# Altium schematic symbol library EuroPresserV1.SCHLIB: 8 symbols
Pins are listed as number, name and electrical type; pins without a type are passive.

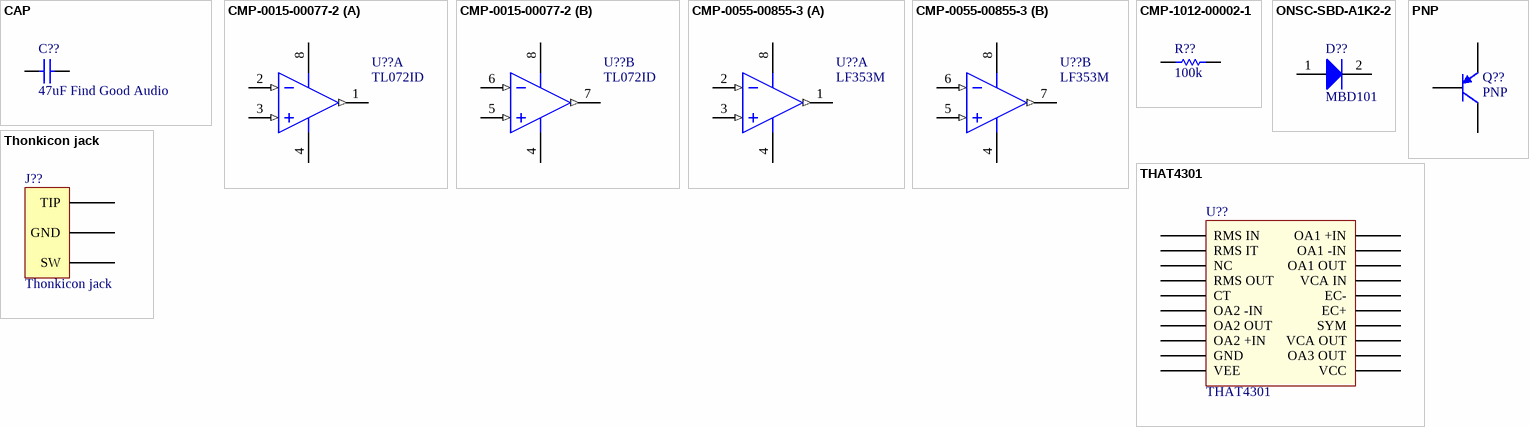
[diagram p0: symbols CAP to Thonkicon jack]

## CAP
designator C??, comment 47uF Find Good Audio
CAP 47uF 10V ±20% 1206 (3216 Metric) Thickness 1.9mm SMD; Case-Metric: 3216; Case-EIA: 1206; Tolerance: Â±20%; Technology: SMT; Rated Voltage: 10 V; Value: 47uF; Max Thickness: 1.9 mm
footprint CAPC1206(3216)190_N (Chip Capacitor, Body 3.2x1.6mm, Height 1.9mm, IPC Medium Density)
footprint CAPC1206(3216)190_M (Chip Capacitor, Body 3.2x1.6mm, Height 1.9mm, IPC Low Density)
footprint CAPC1206(3216)190_L (Chip Capacitor, Body 3.2x1.6mm, Height 1.9mm, IPC High Density)
pins: 1, 2
1 alternate drawing of the same symbol

## CMP-0015-00077-2
designator U??, comment TL072ID
Dual Low-Noise JFET-Input General-Purpose Operational Amplifier, 7 to 36 V, -40 to 85 degC, 8-pin SOIC (D8), Green (RoHS & no Sb/Br); Mfr: ST Micro; Mfr_Pn: TL072IDT; Distributor: Mouser; Distributor_Pn: 511-TL072IDT
footprint D0008A_N (SOIC, 8-Leads, Body 5x4mm, Pitch 1.27mm, IPC Medium Density)
footprint D0008A_L (SOIC, 8-Leads, Body 5x4mm, Pitch 1.27mm, IPC High Density)
footprint D0008A_M (SOIC, 8-Leads, Body 5x4mm, Pitch 1.27mm, IPC Low Density)
pins on every part: 4 VCC- (power), 8 VCC+ (power)
part A pins: 1 OUT1 (out), 2 IN1- (in), 3 IN1+ (in)
part B pins: 5 IN2+ (in), 6 IN2- (in), 7 OUT2 (out)

## CMP-0055-00855-3
designator U??, comment LF353M
Wide Bandwidth Dual JFET Input Operational Amplifier, 8-pin Narrow SOIC; Manufacturer: Texas Instruments; CompType: Amplifiers; PackageTopMarking: NSZXTT*LF353*M; PowerWise: N; Package Reference: D0008A; Code_JEDEC: MS-012-AA; PackageDescription: SOIC Narrow, 4.9 x 3.9 x 1.45mm, 8 Lead, 1.27mm Pitch; ComponentLink1Description: Datasheet URL; RoHS: N; ComponentLink1URL: http://www.ti.com/general/docs/lit/getliterature.tsp?genericPartNumber=LF353-N&fileType=pdf; PinCount: 8; Code_IPC: SOIC127P600-8
footprint D0008A_M (SOIC, 8-Leads, Body 5x4mm, Pitch 1.27mm, IPC Low Density)
footprint D0008A_N (SOIC, 8-Leads, Body 5x4mm, Pitch 1.27mm, IPC Medium Density)
footprint D0008A_L (SOIC, 8-Leads, Body 5x4mm, Pitch 1.27mm, IPC High Density)
pins on every part: 4 V- (power), 8 V+ (power)
part A pins: 1 OUTA (out), 2 INA- (in), 3 INA+ (in)
part B pins: 5 INB+ (in), 6 INB- (in), 7 OUTB (out)

## CMP-1012-00002-1
designator R??, comment 100k
Res; Mfr: Susumu; Mfr_Pn: RR0816P-104-D; Case-EIA: 0603; Tolerance: 5 %; Distributor: Mouser; Distributor_Pn: 754-RR0816P-104D; Value: 100k
footprint RESC0603(1608)_M (Chip Resistor, Body 1.6x0.8mm, IPC Low Density)
footprint RESC0603(1608)_N (Chip Resistor, Body 1.6x0.8mm, IPC Medium Density)
footprint RESC0603(1608)_L (Chip Resistor, Body 1.6x0.8mm, IPC High Density)
pins: 1, 2
1 alternate drawing of the same symbol

## ONSC-SBD-A1K2-2
designator D??, comment MBD101
Schottky Barrier Diode, 2-Pin TO-92, Bulk Box; Manufacturer: On Semiconductor; Configuration: Single; ComponentLink2URL: http://www.onsemi.cn/pub_link/Collateral/MBD101-D.PDF; PackageReference: TO-92-2-182-06; PackageDescription: 2-Pin Transistor Outline, Body 4.825 x 3.685 mm, Pitch 2.54 mm; ComponentLink2Description: Datasheet; Packing: Bulk Box; ComponentLink1URL: http://www.onsemi.com/; ComponentLink3URL: http://www.onsemi.com/pub_link/Collateral/182-06.PDF; PartNumber: MBD101; RoHS: FALSE; ComponentLink3Description: Package Specification; DatasheetVersion: Rev. 3; ComponentLink1Description: Manufacturer URL; PackageVersion: Rev. L, 04/1998; Mounting Technology: Through Hole
footprint ONSC-TO-92-2-182-06 (TO, 2-Leads, Body Dia 4.69mm, Pitch 2.54mm)
pins: 1 A, 2 K

## PNP
designator Q??
PNP Bipolar Transistor; Published: 8-Jun-2000; LatestRevisionDate: 29-May-2009; LatestRevisionNote: IPC-7351 Footprint Added.; PackageVersion: Aug-1999; PackageReference: SOT-23B; Publisher: Altium Limited; PackageDescription: 3-Pin SOT-23 Package 0.95 mm Pitch, 2.4 mm Lead Span
footprint SOT-23B_N (SOT23, 3-Leads, Body 2.9x1.3mm, Pitch 0.95mm, Lead Span 2.4mm, IPC Medium Density)
footprint SOT-23B_L (SOT23, 3-Leads, Body 2.9x1.3mm, Pitch 0.95mm, Lead Span 2.4mm, IPC High Density)
footprint SOT-23B_M (SOT23, 3-Leads, Body 2.9x1.3mm, Pitch 0.95mm, Lead Span 2.4mm, IPC Low Density)
simulation model PNP
signal-integrity model PNP
pins: 1 C, 2 B, 3 E

## THAT4301
designator U??
pins: 1 RMS IN, 2 RMS IT, 3 NC, 4 RMS OUT, 5 CT, 6 OA2 -IN, 7 OA2 OUT, 8 OA2 +IN, 9 GND, 10 VEE, 11 VCC, 12 OA3 OUT, 13 VCA OUT, 14 SYM, 15 EC+, 16 EC-, 17 VCA IN, 18 OA1 OUT, 19 OA1 -IN, 20 OA1 +IN

## Thonkicon jack
designator J??
footprint Thonkiconn Pot PJ301M (PJ301 Thonkicon Jack from Thonk)
pins: 1 GND, 2 SW, 3 TIP